# Altium footprint library 100SP1T1B1M2QEH.PcbLib: 1 footprints
Each footprint in its own frame and in the unit in brackets; x right, y up, seen from the top. Pads: shape width x height; smd on the part's side, far side on the other; paste and mask are expansions set on the pad; w line width, h text height; cw(c..) or ccw(c..) is an arc to the next point about the centre after c.
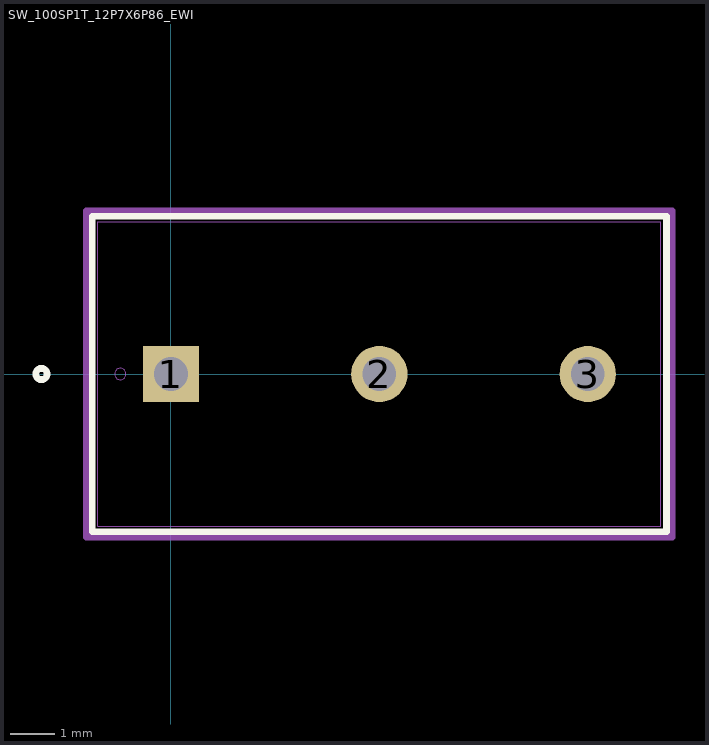
[diagram p0: the footprint, top view; thin cyan lines are the x and y axes]

## SW_100SP1T_12P7X6P86_EWI [mil]
pads (3):
  rect 50x50 / inner round 60 / far side rect 50x50 hole 30 paste-99999 mask+0: 1(0,0)
  round 50 / inner round 60 / far side round 50 hole 30 paste-99999 mask+0: 2(185.04,0) 3(370.08,0)
Top Overlay:
  circle w6: c-114.96,0 r5
  lines w6: -69.96,-140 -69.96,140 440.04,140 440.04,-140 -69.96,-140
Mechanical 13:
  circle w0: c-44.96,0 r5
  lines w1: -64.96,-135 -64.96,135 435.04,135 435.04,-135 -64.96,-135
Mechanical 15:
  lines w6: -74.96,-145 445.04,-145 445.04,145 -74.96,145 -74.96,-145